# EAGLE library part USB-A-S-S-B-TH (library USB-A-S-S-B-TH)
Samtec USB-A Series, Right Angle Through Hole, Version 2.0 Type A USB Connector, Receptacle Source: Datasheet <http://suddendocs.samtec.com/prints/usb-a-s-x-x-th-x-mkt.pdf>
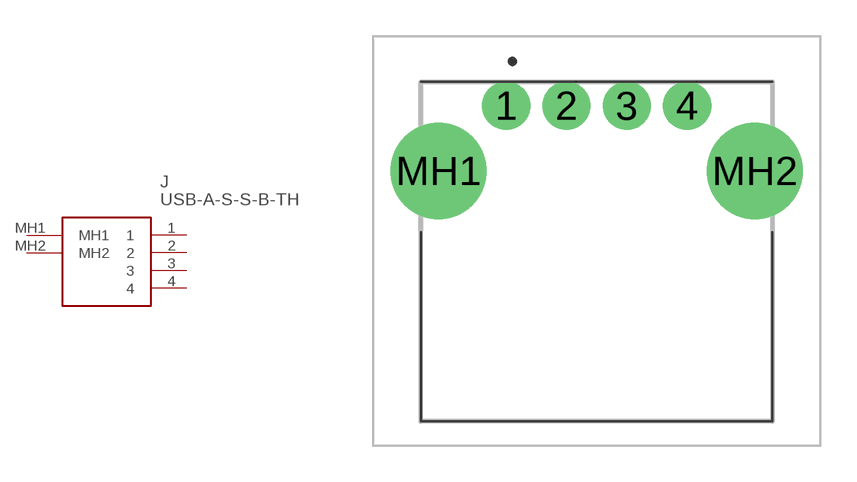
[diagram p0: symbol with the pads of USBASSBTH; footprint USBASSBTH]

Designator prefix J

## USB-A-S-S-B-TH (ARROW_PART_NUMBER: USB-A-S-S-B-TH; ARROW_PRICE-STOCK: https://www.arrow.com/en/products/usb-a-s-s-b-th/samtec; DESCRIPTION: Samtec USB-A Series, Right Angle Through Hole, Version 2.0 Type A USB Connector, Receptacle; HEIGHT: 7.21mm; MANUFACTURER_NAME: SAMTEC; MANUFACTURER_PART_NUMBER: USB-A-S-S-B-TH; MOUSER_PART_NUMBER: 200-USBASSBTH; MOUSER_PRICE-STOCK: https://www.mouser.co.uk/ProductDetail/Samtec/USB-A-S-S-B-TH?qs=rHlcMk0NooKirvKQP4B%2Fsg%3D%3D)  [USBASSBTH]
1  1
2  2
3  3
4  4
MH1  MH1
MH2  MH2

## Footprint USBASSBTH (pad centres in mm)
USB-A-S-S-B-TH-3
drill 1 pad 2: 1 -0.254,0; 2 2.246,0; 3 4.754,0; 4 7.254,0
drill 2.3 pad 4: MH1 -3.07,-2.71; MH2 10.07,-2.71